# EAGLE library part UA741-OP-AMP (library BrownSpaceEngineering)
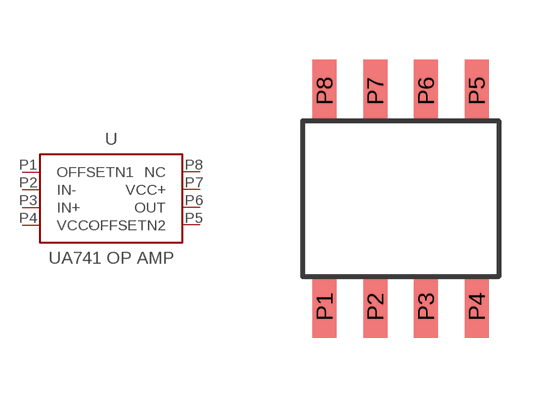
[diagram p28: symbol with the pads of SOIC-8; footprint SOIC-8]

Designator prefix U

## UA741-OP-AMP  [SOIC-8]
P1  OFFSETN1
P2  IN-
P3  IN+
P4  VCC-
P5  OFFSETN2
P6  OUT
P7  VCC+
P8  NC  nc

## Footprint SOIC-8 (pad centres in mm)
smd 0.6 x 1.55: P1 -1.905,-2.7; P2 -0.635,-2.7; P3 0.635,-2.7; P4 1.905,-2.7; P5 1.905,2.7; P6 0.635,2.7; P7 -0.635,2.7; P8 -1.905,2.7